# Altium schematic symbol library CAP 22uF 10V.Schlib: 1 symbol
Pins are listed as number, name and electrical type; pins without a type are passive.

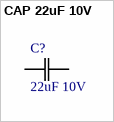
[diagram p0: symbol CAP 22uF 10V]

## CAP 22uF 10V
designator C?, comment 22uF 10V
CAP CER 2.2UF 10V X5R 0805; Tolerance: 20%; Package: 0805; Value: 22uF; Rating: 10V; Temperature Coefficient: X5R; Operating Temperature: -55°C ~ 85°C
footprint 0805
pins: 1 C1, 2 C2